# Altium schematic symbol library 66200113722DEC.SchLib: 1 symbol
Pins are listed as number, name and electrical type; pins without a type are passive.

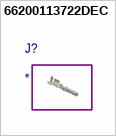
[diagram p0: symbol 66200113722DEC]

## 66200113722DEC
designator J?